# Altium footprint library Estacion_Meteorologica_Final.PcbLib: 55 footprints (part 2 of 4)
Each footprint in its own frame and in the unit in brackets; x right, y up, seen from the top. Pads: shape width x height; smd on the part's side, far side on the other; paste and mask are expansions set on the pad; w line width, h text height; cw(c..) or ccw(c..) is an arc to the next point about the centre after c.
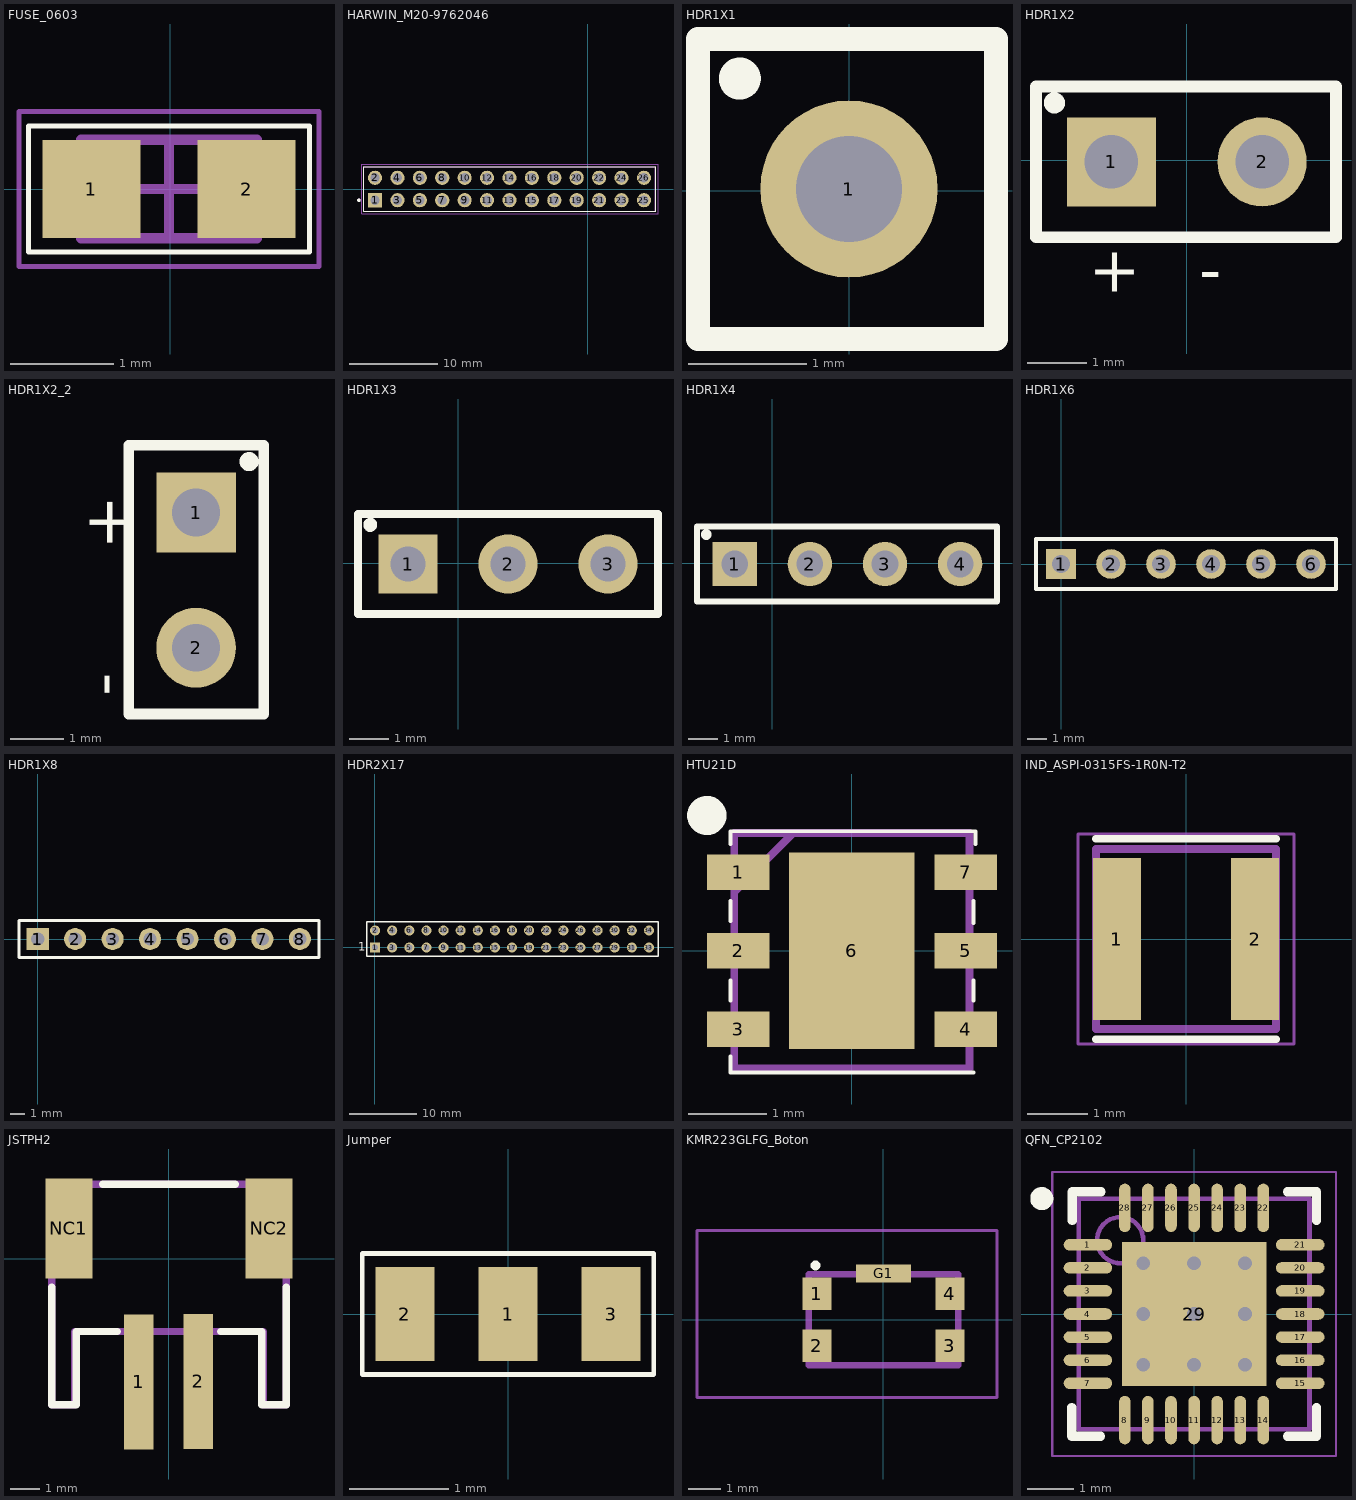
[diagram p1: the footprints below, top view; thin cyan lines are the x and y axes]

## FUSE_0603 [mm]
pads (2):
  rect 0.95x0.95 smd: 1(-0.763,0) 2(0.737,0)
Top Overlay:
  lines w0.05: -1.372,-0.61 1.346,-0.61 1.346,0.61 -1.372,0.61 -1.372,-0.61
Mechanical 13:
  lines w0.1: -0.863,-0.475 0.837,-0.475 0.837,0.475 -0.863,0.475 -0.863,-0.475
Mechanical 15:
  lines w0.05: -1.463,-0.75 1.437,-0.75 1.437,0.75 -1.463,0.75 -1.463,-0.75
  lines w0.1: -0.488,0 0.462,0 ; -0.013,-0.475 -0.013,0.475
3D body "fuse_SF-0603SA050M-2.stp": height 0.9, standoff 0, extent -0.8,-0.45 0.8,0.45

## HARWIN_M20-9762046 [mm]
pads (26):
  rect 1.605x1.605 / inner round 1.605 / far side rect 1.605x1.605 hole 1.07: 1(-24.13,-1.27)
  round 1.605 hole 1.07: 2(-24.13,1.27) 3(-21.59,-1.27) 4(-21.59,1.27) 5(-19.05,-1.27) 6(-19.05,1.27) 7(-16.51,-1.27) 8(-16.51,1.27) 9(-13.97,-1.27) 10(-13.97,1.27) 11(-11.43,-1.27) 12(-11.43,1.27) 13(-8.89,-1.27) 14(-8.89,1.27) 15(-6.35,-1.27) 16(-6.35,1.27) 17(-3.81,-1.27) 18(-3.81,1.27) 19(-1.27,-1.27) 20(-1.27,1.27) 21(1.27,-1.27) 22(1.27,1.27) 23(3.81,-1.27) 24(3.81,1.27) 25(6.35,-1.27) 26(6.35,1.27)
Top Overlay:
  circle w0.2: c-25.96,-1.27 r0.1
  lines w0.127: -25.4,-2.54 -25.4,2.54 7.689,2.54 7.689,-2.54 -25.4,-2.54
Mechanical 13:
  circle w0.2: c-25.96,-1.27 r0.1
  lines w0.127: -25.4,-2.54 -25.4,2.54 7.658,2.54 7.658,-2.54 -25.4,-2.54
Mechanical 15:
  lines w0.05: -25.65,-2.79 7.945,-2.79 7.945,2.79 -25.65,2.79 -25.65,-2.79

## HDR1X1 [mm]
pads (1):
  round 1.5 hole 0.9: 1(-0.003,0.013)
Top Overlay:
  circle w0.254: c-0.927,0.947 r0.051
  lines w0.2: -1.28,-1.257 1.242,-1.257 1.242,1.283 -1.28,1.283 -1.28,-1.257

## HDR1X2 [mm]
pads (2):
  rect 1.5x1.5 hole 0.9: 1(-1.27,-0.025)
  round 1.5 hole 0.9: 2(1.27,-0.025)
Top Overlay:
  circle w0.254: c-2.229,0.969 r0.051
  lines w0.2: -2.54,-1.295 2.515,-1.295 2.515,1.245 1.251,1.245 -1.276,1.245 -2.54,1.245 -2.54,-1.295
  text "+   -" at -1.651,-2.21 h0.76
3D body "User Library-JST B2B-XH-A.STEP": height 7, standoff -3.4, extent -3.7,-2.397 3.7,3.353

## HDR1X2_2 [mm]
pads (2):
  rect 1.5x1.5 hole 0.9: 1(4.597,20.041)
  round 1.5 hole 0.9: 2(4.597,17.501)
Top Overlay:
  circle w0.254: c5.591,21 r0.051
  lines w0.2: 3.327,16.256 5.867,16.256 5.867,17.52 5.867,20.047 5.867,21.311 3.327,21.311 3.327,16.256
  text "+      -" at 2.306,20.371 h1.52
3D body "Adafruit_BQ24074_V5.step": height 0, standoff -12.57, extent -25.883,6.071 7.137,47.245

## HDR1X3 [mm]
pads (3):
  rect 1.5x1.5 hole 0.9: 1(-1.27,-0.025)
  round 1.5 hole 0.9: 2(1.27,-0.025) 3(3.81,-0.025)
Top Overlay:
  circle w0.254: c-2.229,0.969 r0.051
  lines w0.2: -2.54,-1.295 -2.54,1.245 5.08,1.245 5.08,-1.295 -2.54,-1.295

## HDR1X4 [mm]
pads (4):
  rect 1.5x1.5 hole 0.9: 1(-1.27,-0.025)
  round 1.5 hole 0.9: 2(1.27,-0.025) 3(3.81,-0.025) 4(6.35,-0.025)
Top Overlay:
  circle w0.254: c-2.229,0.969 r0.051
  lines w0.2: -2.54,-1.295 7.595,-1.295 7.595,1.245 -2.54,1.245 -2.54,-1.295

## HDR1X6 [mm] "Connector; Header; 6 Position"
pads (6):
  rect 1.5x1.5 hole 0.9: 1(0,0)
  round 1.5 hole 0.9: 2(2.54,0) 3(5.08,0) 4(7.62,0) 5(10.16,0) 6(12.7,0)
Top Overlay:
  lines w0.2: -1.27,-1.27 -1.27,1.27 13.97,1.27 13.97,-1.27 -1.27,-1.27
3D body "header 6.STEP": height 7.5, standoff -11.46, extent -1.27,-1.27 13.97,1.27

## HDR1X8 [mm] "Connector; Header; 6 Position"
pads (8):
  rect 1.5x1.5 hole 0.9: 1(0,0)
  round 1.5 hole 0.9: 2(2.54,0) 3(5.08,0) 4(7.62,0) 5(10.16,0) 6(12.7,0) 7(15.24,0) 8(17.78,0)
Top Overlay:
  lines w0.2: -1.27,-1.27 -1.27,1.27 19.08,1.27 19.08,-1.27 -1.27,-1.27
3D body "header 6.STEP": height 8.5, standoff -10.46, extent -1.27,-1.27 13.97,1.27
3D body "header 6.STEP": height 8.5, standoff -10.46, extent 3.764,-1.293 19.004,1.247

## HDR2X17 [mm] "Connector; Header; 20 Position X 2"
pads (34):
  rect 1.5x1.5 hole 0.9: 1(0.025,-0.051)
  round 1.5 hole 0.9: 2(0.025,2.489) 3(2.565,-0.051) 4(2.565,2.489) 5(5.105,-0.051) 6(5.105,2.489) 7(7.645,-0.051) 8(7.645,2.489) 9(10.185,-0.051) 10(10.185,2.489) 11(12.725,-0.051) 12(12.725,2.489) 13(15.265,-0.051) 14(15.265,2.489) 15(17.805,-0.051) 16(17.805,2.489) 17(20.345,-0.051) 18(20.345,2.489) 19(22.885,-0.051) 20(22.885,2.489) 21(25.425,-0.051) 22(25.425,2.489) 23(27.965,-0.051) 24(27.965,2.489) 25(30.505,-0.051) 26(30.505,2.489) 27(33.045,-0.051) 28(33.045,2.489) 29(35.585,-0.051) 30(35.585,2.489) 31(38.125,-0.051) 32(38.125,2.489) 33(40.665,-0.051) 34(40.665,2.489)
Top Overlay:
  lines w0.2: -1.245,-1.321 42.012,-1.321 42.012,3.759 -1.245,3.759 -1.245,-1.321
  text "1" at -2.515,-0.559 h1.27
3D body "Female_Header_1x17_P2.54_H8.5_straight.step": height 8.5, standoff -3, extent -1.245,-1.301 41.935,1.199
3D body "Female_Header_1x17_P2.54_H8.5_straight.step": height 8.5, standoff -3, extent -1.245,1.239 41.935,3.739

## HTU21D [mm]
pads (7):
  rect 0.8x0.45 smd: 1(-1.45,1) 2(-1.45,0) 3(-1.45,-1) 4(1.45,-1) 5(1.45,0) 7(1.45,1)
  rect 1.6x2.5 smd: 6(0,0)
Top Overlay:
  circle w0.25: c-1.85,1.725 r0.125
  lines w0.05: -1.549,-1.346 -1.549,-1.549 1.549,-1.549 1.548,-1.548 ; -1.549,-0.635 -1.549,-0.381 ; -1.549,0.381 -1.549,0.635 ; -1.549,1.362 -1.549,1.524 1.575,1.524 1.575,1.36 ; 1.549,-0.635 1.549,-0.381 ; 1.549,0.356 1.549,0.635
Mechanical 15:
  lines w0.1: -1.5,0.75 -0.75,1.5 ; -1.5,-1.5 1.5,-1.5 1.5,1.5 -1.5,1.5 -1.5,-1.5
3D body "HPP845E131R5.stp": height 1, standoff 0, extent -1.55,-1.5 1.55,1.5

## IND_ASPI-0315FS-1R0N-T2 [mm]
height 1.5
pads (2):
  rect 0.8x2.7 smd: 1(-1.15,0) 2(1.15,0)
Top Overlay:
  lines w0.127: -1.5,-1.67 1.5,-1.67 ; -1.5,1.67 1.5,1.67
Mechanical 13:
  lines w0.127: -1.5,-1.5 -1.5,1.5 1.5,1.5 1.5,-1.5 -1.5,-1.5
Mechanical 15:
  lines w0.05: -1.8,-1.75 -1.8,1.75 1.8,1.75 1.8,-1.75 -1.8,-1.75
3D body "step_temp.STEP": height 1.5, standoff 0, extent -1.5,-1.5 1.5,1.5

## JSTPH2 [mil]
pads (4):
  rect 39.4x181.1 smd paste+0 mask+2: 1(-40,-165) 2(39.5,-164.45)
  rect 63x133.9 smd paste+0 mask+2: NC1(-133.5,40.55) NC2(134.5,40.55)
Top Overlay:
  lines w10: -156.5,-38.45 -156.5,-195.45 -123.5,-195.45 -123.5,-97.45 -68.5,-97.45 ; -88.5,99.55 89.5,99.55 ; 69.5,-97.45 124.5,-97.45 124.5,-195.45 157.5,-195.45 157.5,-38.45
Mechanical 15:
  lines w10: -156.5,-195.45 -125.5,-195.45 -125.5,-97.45 126.5,-97.45 126.5,-195.45 157.5,-195.45 157.5,99.55 -156.5,99.55 -156.5,-195.45
3D body "OBJ_JSTPH2.stp": height 0, standoff 0, extent 25,-90 25,-90
3D body "OBJ_JSTPH2.stp": height 0, standoff 0, extent 5,-55 5,-55
3D body "OBJ_JSTPH2.stp": height 0, standoff 0, extent 45,-35 45,-35
3D body "OBJ_JSTPH2.stp": height 0, standoff 0, extent 45,-35 45,-35
3D body "OBJ_JSTPH2.stp": height 0, standoff 0, extent 15,-25 15,-25
3D body "OBJ_JSTPH2.stp": height 0, standoff 0, extent 14.73,-1.78 14.73,-1.78
3D body "OBJ_JSTPH2.stp": height 0, standoff 0, extent 15,-5 15,-5

## Jumper [mm]
pads (3):
  rect 0.6x0.95 smd: 1(0,0) 2(-1.041,0) 3(1.041,0)
Top Overlay:
  lines w0.05: -1.473,-0.61 -1.473,0.61 1.473,0.61 1.473,-0.61 -1.473,-0.61

## KMR223GLFG_Boton [mm]
pads (5):
  rect 0.9x1 smd: 1(-2.05,0.8) 2(-2.05,-0.8) 3(2.05,-0.8) 4(2.05,0.8)
  rect 1.7x0.55 smd: G1(0,1.424)
Top Overlay:
  lines w0.2: -2.055,1.699 cw(c-2.097,1.671) -2.147,1.671 ; -2.147,1.671 cw(c-2.097,1.671) -2.047,1.671 cw(c-2.097,1.671) -2.147,1.671
Mechanical 15:
  lines w0.2: -2.3,-1.4 2.3,-1.4 2.3,1.4 -2.3,1.4 -2.3,-1.4
Mechanical 20:
  lines w0.1: -5.75,-2.4 3.5,-2.4 3.5,2.75 -5.75,2.75 -5.75,-2.4
3D body "KMR223GLFG.stp": height 1.92, standoff -0.02, extent -2.297,-1.403 2.303,1.397

## QFN_CP2102 [mm] "QFN, 28-Leads, Body 5.00x5.00mm, Pitch 0.50mm, Thermal Pad 3.13x3.13mm, IPC Medium Density"
height 1
pads (29):
  oval 1.05x0.25 smd: 1(-2.3,1.5) 2(-2.3,1) 3(-2.3,0.5) 4(-2.3,0) 5(-2.3,-0.5) 6(-2.3,-1) 7(-2.3,-1.5) 15(2.3,-1.5) 16(2.3,-1) 17(2.3,-0.5) 18(2.3,0) 19(2.3,0.5) 20(2.3,1) 21(2.3,1.5)
  oval 0.25x1.05 smd: 8(-1.5,-2.3) 9(-1,-2.3) 10(-0.5,-2.3) 11(0,-2.3) 12(0.5,-2.3) 13(1,-2.3) 14(1.5,-2.3) 22(1.5,2.3) 23(1,2.3) 24(0.5,2.3) 25(0,2.3) 26(-0.5,2.3) 27(-1,2.3)
  oval 0.25x1.05 smd mask+0.051: 28(-1.5,2.3)
  rect 3.13x3.13 smd: 29(0,0)
via 0,0 diameter 0.508 hole 0.3
via 1.1,-1.1 diameter 0.508 hole 0.3
via 0,-1.1 diameter 0.508 hole 0.3
via -1.1,-1.1 diameter 0.508 hole 0.3
via 1.1,0 diameter 0.508 hole 0.3
via -1.1,0 diameter 0.508 hole 0.3
via 1.1,1.1 diameter 0.508 hole 0.3
via -1.1,1.1 diameter 0.508 hole 0.3
via 0,1.1 diameter 0.508 hole 0.3
Top Overlay:
  circle w0.25: c-3.3,2.5 r0.125
  lines w0.2: -2.65,-2.025 -2.65,-2.65 -2.025,-2.65 ; -2.642,2.024 -2.642,2.649 -2.017,2.649 ; 2.025,-2.65 2.65,-2.65 ; 2.65,2.025 2.65,2.65 ; 2.65,-2.65 2.65,-2.025 2.65,-2.65 ; 2.65,2.65 2.025,2.65 2.65,2.65
Mechanical 13:
  circle w0.1: c-1.6,1.6 r0.5
  lines w0.1: -2.5,-2.5 2.5,-2.5 2.5,2.5 -2.5,2.5 -2.5,-2.5
Mechanical 15:
  lines w0.05: -3.075,-3.075 3.075,-3.075 3.075,3.075 -3.075,3.075 -3.075,-3.075
  lines w0.1: -0.5,0 0.5,0 ; 0,-0.5 0,0.5
3D body "CP2102N.stp": height 0.8, standoff 0, extent -2.55,-2.55 2.55,2.55